# Altium schematic symbol library SCH_LIB.SchLib: 112 symbols
Pins are listed as number, name and electrical type; pins without a type are passive.

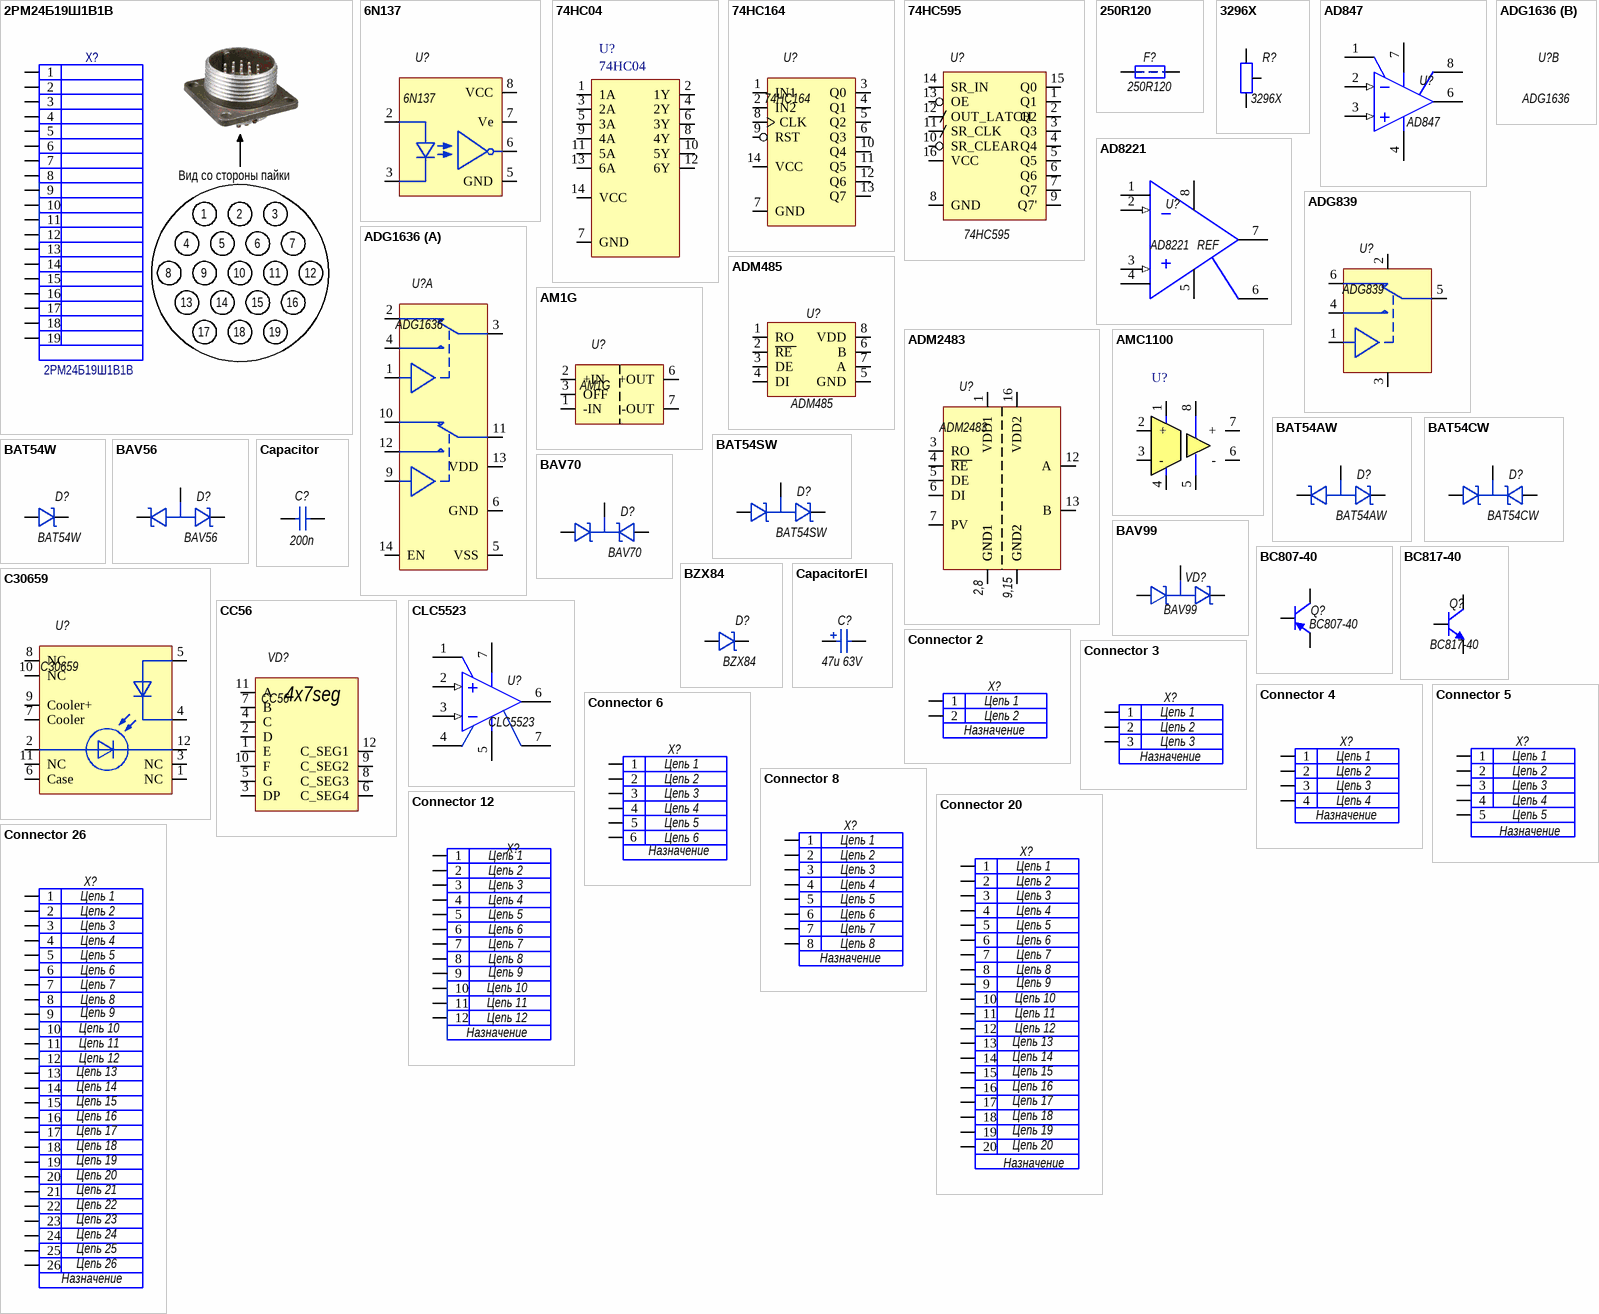
[diagram p0: symbols 2РМ24Б19Ш1В1В to Connector 26]

## 2РМ24Б19Ш1В1В
designator X?
Разъем; ValueSCH: 2РМ24Б19Ш1В1В; ValueBOM: 2РМ24Б19Ш1В1В; HelpURL: Z:\_PROJECTS\__MY_AD_LIB\Datasheets\2РМ24Б19Ш1В1В
pins: 1, 2, 3, 4, 5, 6, 7, 8, 9, 10, 11, 12, 13, 14, 15, 16, 17, 18, 19
text: Вид со стороны пайки

## 6N137
designator U?
Оптопара; ValueBOM: 6N137; ValueSCH: 6N137; MarkPCB: 6N137; HelpURL: C:\Datasheets\6N137.pdf
footprint SO8-150
pins: 2, 3, 5 GND, 6, 7 Ve, 8 VCC
1 alternate drawing of the same symbol

## 74HC04
designator U?
footprint SO14-150
pins: 1 1A, 2 1Y, 3 2A, 4 2Y, 5 3A, 6 3Y, 7 GND, 8 4Y, 9 4A, 10 5Y, 11 5A, 12 6Y, 13 6A, 14 VCC

## 74HC164
designator U?
Регистр сдвиговый последовательный вход-паралельный выход; ValueBOM: 74HC164; ValueSCH: 74HC164; MarkPCB: 74HC164; HelpURL: C:\Datasheets\74HC164.pdf
footprint SO14-150
pins: 1 IN1, 2 IN2, 3 Q0, 4 Q1, 5 Q2, 6 Q3, 7 GND, 8 CLK, 9 RST, 10 Q4, 11 Q5, 12 Q6, 13 Q7, 14 VCC
1 alternate drawing of the same symbol

## 74HC595
designator U?
Регистр сдвиговый последовательный вход-паралельный выход c защелкой; ValueBOM: 74HC595; ValueSCH: 74HC595; MarkPCB: 74HC595
footprint SO16-150
pins: 1 Q1, 2 Q2, 3 Q3, 4 Q4, 5 Q5, 6 Q6, 7 Q7, 8 GND, 9 Q7', 10 SR_CLEAR, 11 SR_CLK, 12 OUT_LATCH, 13 OE, 14 SR_IN, 15 Q0, 16 VCC
1 alternate drawing of the same symbol

## 250R120
designator F?
Resettable PTCs; ValueBOM: 250R120; ValueSCH: 250R120
footprint FUSR_BOURNS_MF-R_STYLE1-D7.4MM (PTC Resettable Fuse, MF-R Series, Case style 1 Diametre 7.4mm)
pins: 1, 2
1 alternate drawing of the same symbol

## 3296X
designator R?
Резистор подстроечный; ValueBOM: 3296X; ValueSCH: 3296X; HelpURL: C:\Datasheets\.pdf
footprint 3296X (Потенциометр)
pins: 1, 2, 3
1 alternate drawing of the same symbol

## AD847
designator U?
Операционный усилитель; ValueBOM: AD847; ValueSCH: AD847; MarkPCB: AD847; HelpURL: C:\Datasheets\AD847.pdf
footprint SO8-150
pins: 1 RG (power), 2 IN- (in), 3 IN+ (in), 4 V- (power), 6 OUT (oc), 7 V+ (power), 8 RG (power)
1 alternate drawing of the same symbol

## AD8221
designator U?
Дифференциальный усилитель; ValueBOM: AD8221; ValueSCH: AD8221; MarkPCB: AD8221
footprint SO8-150
pins: 1 RG (power), 2 IN+ (in), 3 IN- (in), 4 RG (power), 5 RG (power), 6 RG (power), 7 RG (power), 8 RG (power)
1 alternate drawing of the same symbol
text: REF

## ADG839
designator U?
Аналоговый ключ; ValueBOM: ADG839; ValueSCH: ADG839; MarkPCB: ADG839; HelpURL: C:\Datasheets\6N137.pdf
footprint SC70-6 (SC70, 6-Leads, Body 2.03x2.10mm, Pitch 0.65mm, IPC Medium Density)
pins: 1 IN, 2 VDD, 3 GND, 4 S1, 5 D, 6 S2
1 alternate drawing of the same symbol

## ADG1636
designator U?
Аналоговый ключ; ValueBOM: ADG1636; ValueSCH: ADG1636; MarkPCB: ADG1636
part A pins: 1 IN, 2 S2, 3 D, 4 S1, 5 VSS, 6 GND, 9 IN, 10 S2, 11 D, 12 S1, 13 VDD, 14 EN
1 alternate drawing of the same symbol

## ADM485
designator U?
Драйвер RS485; ValueBOM: ADM485; ValueSCH: ADM485; MarkPCB: ADM485; HelpURL: C:\Datasheets\ADM485.pdf
footprint SO8-150
pins: 1 RO, 2 ~{RE }, 3 DE, 4 DI, 5 GND, 6 B, 7 A, 8 VDD
1 alternate drawing of the same symbol

## ADM2483
designator U?
Драйвер RS485 изолированный; ValueBOM: ADM2483BRWZ; ValueSCH: ADM2483; MarkPCB: ADM2483; HelpURL: C:\Datasheets\ADM2483.pdf
footprint SO16-300
pins: 1 VDD1, 2 GND1, 3 RO, 4 ~{RE }, 5 DE, 6 DI, 7 PV, 8 GND1, 9 GND2, 12 A, 13 B, 15 GND2, 16 VDD2
1 alternate drawing of the same symbol
text: 2,8; 9,15

## AM1G
designator U?
DC/DC преобразователь; ValueBOM: AM1G; ValueSCH: AM1G; MarkPCB: AM1G; HelpURL: C:\Datasheets\AM1G.pdf
footprint AM1G (SIP-8 Package DC-DC Converter,Body 21.85x11.1mm, IZ Serie)
pins: 1 -IN, 2 +IN, 3 OFF, 6 +OUT, 7 -OUT
1 alternate drawing of the same symbol

## AMC1100
designator U?
Усилитель развязанный
footprint SO8-150
pins: 1, 2 +, 3 -, 4, 5, 6 -, 7 +, 8

## BAT54AW
designator D?
Диодная сборка 2хШоттки; MarkPCB: 42; ValueBOM: BAT54AW; ValueSCH: BAT54AW; HelpURL: C:\Datasheets\BAT54.pdf
footprint SOT323 (SOT-323/SC-70; 3 Leads; Body 2.2 x 2.2 mm, inc. leads (LxW max))
pins: 1, 2, 3
1 alternate drawing of the same symbol

## BAT54CW
designator D?
Диодная сборка 2хШоттки; MarkPCB: 43; ValueBOM: BAT54CW; ValueSCH: BAT54CW; HelpURL: C:\Datasheets\BAT54.pdf
footprint SOT323 (SOT-323/SC-70; 3 Leads; Body 2.2 x 2.2 mm, inc. leads (LxW max))
pins: 1, 2, 3
1 alternate drawing of the same symbol

## BAT54SW
designator D?
Диодная сборка 2хШоттки; MarkPCB: 44; ValueBOM: BAT54SW; ValueSCH: BAT54SW; HelpURL: C:\Datasheets\BAT54.pdf
footprint SOT323 (SOT-323/SC-70; 3 Leads; Body 2.2 x 2.2 mm, inc. leads (LxW max))
pins: 1, 2, 3
1 alternate drawing of the same symbol

## BAT54W
designator D?
Диод Шоттки; MarkPCB: L4; ValueBOM: BAT54W; ValueSCH: BAT54W; HelpURL: C:\Datasheets\BAT54.pdf
footprint SOT323 (SOT-323/SC-70; 3 Leads; Body 2.2 x 2.2 mm, inc. leads (LxW max))
pins: 1, 3
1 alternate drawing of the same symbol

## BAV56
designator D?
Диодная сборка 2хДиода; MarkPCB: A1*; ValueBOM: BAV56; ValueSCH: BAV56; HelpURL: C:\Datasheets\BAV56.pdf
footprint SOT323 (SOT-323/SC-70; 3 Leads; Body 2.2 x 2.2 mm, inc. leads (LxW max))
footprint Model Name (Model Description)
footprint Model Name (Model Description)
footprint SOT23 (SOT-23; 3 Leads; Body 3.0 x 2.6 mm Pitch 0.95mm)
pins: 1, 2, 3
1 alternate drawing of the same symbol

## BAV70
designator D?
Диодная сборка 2хДиода; MarkPCB: A4*; ValueBOM: BAV70; ValueSCH: BAV70; HelpURL: C:\Datasheets\BAV70.pdf
footprint SOT323 (SOT-323/SC-70; 3 Leads; Body 2.2 x 2.2 mm, inc. leads (LxW max))
footprint SOT23 (SOT-23; 3 Leads; Body 3.0 x 2.6 mm Pitch 0.95mm)
pins: 1, 2, 3
1 alternate drawing of the same symbol

## BAV99
designator VD?
Диодная сборка 2хДиода; ValueBOM: BAV99; ValueSCH: BAV99
footprint SOT23 (SOT-23; 3 Leads; Body 3.0 x 2.6 mm Pitch 0.95mm)
pins: 1, 2, 3
1 alternate drawing of the same symbol

## BC807-40
designator Q?
Транзистор PNP; MarkPCB: 5C*; ValueBOM: BC807-40; ValueSCH: BC807-40; HelpURL: C:\Datasheets\BC807.pdf
footprint SOT23 (SOT-23; 3 Leads; Body 3.0 x 2.6 mm Pitch 0.95mm)
pins: 1 B, 2 E, 3 C
1 alternate drawing of the same symbol

## BC817-40
designator Q?
Транзистор NPN; MarkPCB: 6C*; ValueBOM: BC817-40; ValueSCH: BC817-40; HelpURL: C:\Datasheets\BC817.pdf
footprint SOT23 (SOT-23; 3 Leads; Body 3.0 x 2.6 mm Pitch 0.95mm)
pins: 1 B, 2 E, 3 C
1 alternate drawing of the same symbol

## BZX84
designator D?
Стабилитрон; ValueBOM: BZX84; ValueSCH: BZX84; HelpURL: C:\Datasheets\BAT54.pdf
footprint SOT23 (SOT-23; 3 Leads; Body 3.0 x 2.6 mm Pitch 0.95mm)
pins: 1, 3
1 alternate drawing of the same symbol

## C30659
designator U?
Модуль с ЛФД; ValueBOM: C30659; ValueSCH: C30659; MarkPCB: C30659; HelpURL: C:\Datasheets\C30659.pdf
footprint C30659
pins: 1 NC, 2, 3 NC, 4, 5, 6 Case, 7 Cooler, 8 NC, 9 Cooler+, 10 NC, 11 NC, 12
1 alternate drawing of the same symbol

## Capacitor
designator C?, comment 200n
Конденсатор; ValueBOM: 0805 200n 25V; ValueSCH: 200n
footprint CAP_0402 (Chip Resistor, EIA 0402, Metric 1005, Body 1.0x0.5mm, IPC Medium Density)
footprint CAP_0603 (Chip Resistor, EIA 0603, Metric 1608, Body 1.6x0.8mm, IPC Medium Density)
footprint CAP_0805 (Chip Resistor, EIA 0805, Metric 2012, Body 2.0x1.2mm, IPC Medium Density)
footprint CAP_1206 (Chip Resistor, EIA 1206, Metric 3016, Body 3.05x1.55mm, IPC Medium Density)
footprint CAP_1210 (Chip Resistor, EIA 1210, Metric 3225, Body 3.2x2.5mm, IPC Medium Density)
footprint CAP_1812 (Chip Resistor, EIA 1812, Metric 4532, 2-Leads, Body 4.5x3.2mm, IPC Medium Density)
footprint CAP_2220 (Chip Capacitor, 2-Leads, Body 5.7x5.0mm, IPC Medium Density)
pins: 1, 2
1 alternate drawing of the same symbol

## CapacitorEl
designator C?, comment 47u 63V
Конденсатор электролитический; ValueBOM: 47u; ValueSCH: 47u 63V
pins: 1, 2
1 alternate drawing of the same symbol

## CC56
designator VD?
Индикатор семисигментный; ValueBOM: CC56; ValueSCH: CC56; MarkPCB: CC56; HelpURL: C:\Datasheets\CC56.pdf
footprint CA56
pins: 1 E, 2 D, 3 DP, 4 C, 5 G, 6 C_SEG4, 7 B, 8 C_SEG3, 9 C_SEG2, 10 F, 11 A, 12 C_SEG1
1 alternate drawing of the same symbol
text: 4x7seg

## CLC5523
designator U?
Операционный усилитель c регулируемым Кус; ValueBOM: CLC5523; ValueSCH: CLC5523; MarkPCB: CLC5523; HelpURL: C:\Datasheets\CLC5523.pdf
footprint SO8-150
pins: 1 RG (power), 2 IN+ (in), 3 IN- (in), 4 V- (power), 5 V- (power), 6 OUT (oc), 7 V+ (power), 7 V- (power)
1 alternate drawing of the same symbol

## Connector 2
designator X?, comment Net1: Цепь 1  Net2: Цепь 2  Name: Назначение  (hidden comment: Model)
ValueSCH: Model
pins: 1, 2

## Connector 3
designator X?, comment Net1: Цепь 1  Net2: Цепь 2  Name: Назначение  Net3: Цепь 3  (hidden comment: Model)
ValueSCH: Model
pins: 1, 2, 3

## Connector 4
designator X?, comment Net4: Цепь 4  Net1: Цепь 1  Net2: Цепь 2  Name: Назначение  Net3: Цепь 3  (hidden comment: Model)
ValueSCH: Model
pins: 1, 2, 3, 4

## Connector 5
designator X?, comment Net4: Цепь 4  Net1: Цепь 1  Net2: Цепь 2  Name: Назначение  Net3: Цепь 3  Net5: Цепь 5  (hidden comment: Model)
ValueSCH: Model
pins: 1, 2, 3, 4, 5

## Connector 6
designator X?, comment Net4: Цепь 4  Net1: Цепь 1  Net2: Цепь 2  Name: Назначение  Net3: Цепь 3  Net5: Цепь 5  Net6: Цепь 6  (hidden comment: Model)
ValueSCH: Model
pins: 1, 2, 3, 4, 5, 6

## Connector 8
designator X?, comment Net4: Цепь 4  Net1: Цепь 1  Net2: Цепь 2  Name: Назначение  Net3: Цепь 3  Net5: Цепь 5  Net6: Цепь 6  Net7: Цепь 7  Net8: Цепь 8  (hidden comment: Model)
ValueSCH: Model
pins: 1, 2, 3, 4, 5, 6, 7, 8

## Connector 12
designator X?, comment NET?: Назначение  Net4: Цепь 4  Net1: Цепь 1  Net2: Цепь 2  Net9: Цепь 9  Net3: Цепь 3  Net5: Цепь 5  Net6: Цепь 6  Net7: Цепь 7  Net8: Цепь 8  Net10: Цепь 10  Net11: Цепь 11  Net12: Цепь 12  (hidden comment: Model)
ValueSCH: Model
pins: 1, 2, 3, 4, 5, 6, 7, 8, 9, 10, 11, 12

## Connector 20
designator X?, comment NET?: Назначение  Net4: Цепь 4  Net1: Цепь 1  Net2: Цепь 2  Net9: Цепь 9  Net3: Цепь 3  Net5: Цепь 5  Net6: Цепь 6  Net7: Цепь 7  Net8: Цепь 8  Net10: Цепь 10  Net11: Цепь 11  Net12: Цепь 12  Net13: Цепь 13  Net15: Цепь 15  Net16: Цепь 16  Net20: Цепь 20  Net19: Цепь 19  Net18: Цепь 18  Net17: Цепь 17  Net14: Цепь 14  (hidden comment: Model)
ValueSCH: Model
footprint IDC-20MR
pins: 1, 2, 3, 4, 5, 6, 7, 8, 9, 10, 11, 12, 13, 14, 15, 16, 17, 18, 19, 20

## Connector 26
designator X?, comment NET?: Назначение  Net4: Цепь 4  Net1: Цепь 1  Net2: Цепь 2  Net9: Цепь 9  Net3: Цепь 3  Net5: Цепь 5  Net6: Цепь 6  Net7: Цепь 7  Net8: Цепь 8  Net10: Цепь 10  Net11: Цепь 11  Net12: Цепь 12  Net13: Цепь 13  Net15: Цепь 15  Net16: Цепь 16  Net26: Цепь 26  Net25: Цепь 25  Net24: Цепь 24  Net23: Цепь 23  Net22: Цепь 22  Net21: Цепь 21  Net20: Цепь 20  Net19: Цепь 19  Net18: Цепь 18  Net17: Цепь 17  Net14: Цепь 14  (hidden comment: Model)
ValueSCH: Model
footprint BH-26
pins: 1, 2, 3, 4, 5, 6, 7, 8, 9, 10, 11, 12, 13, 14, 15, 16, 17, 18, 19, 20, 21, 22, 23, 24, 25, 26

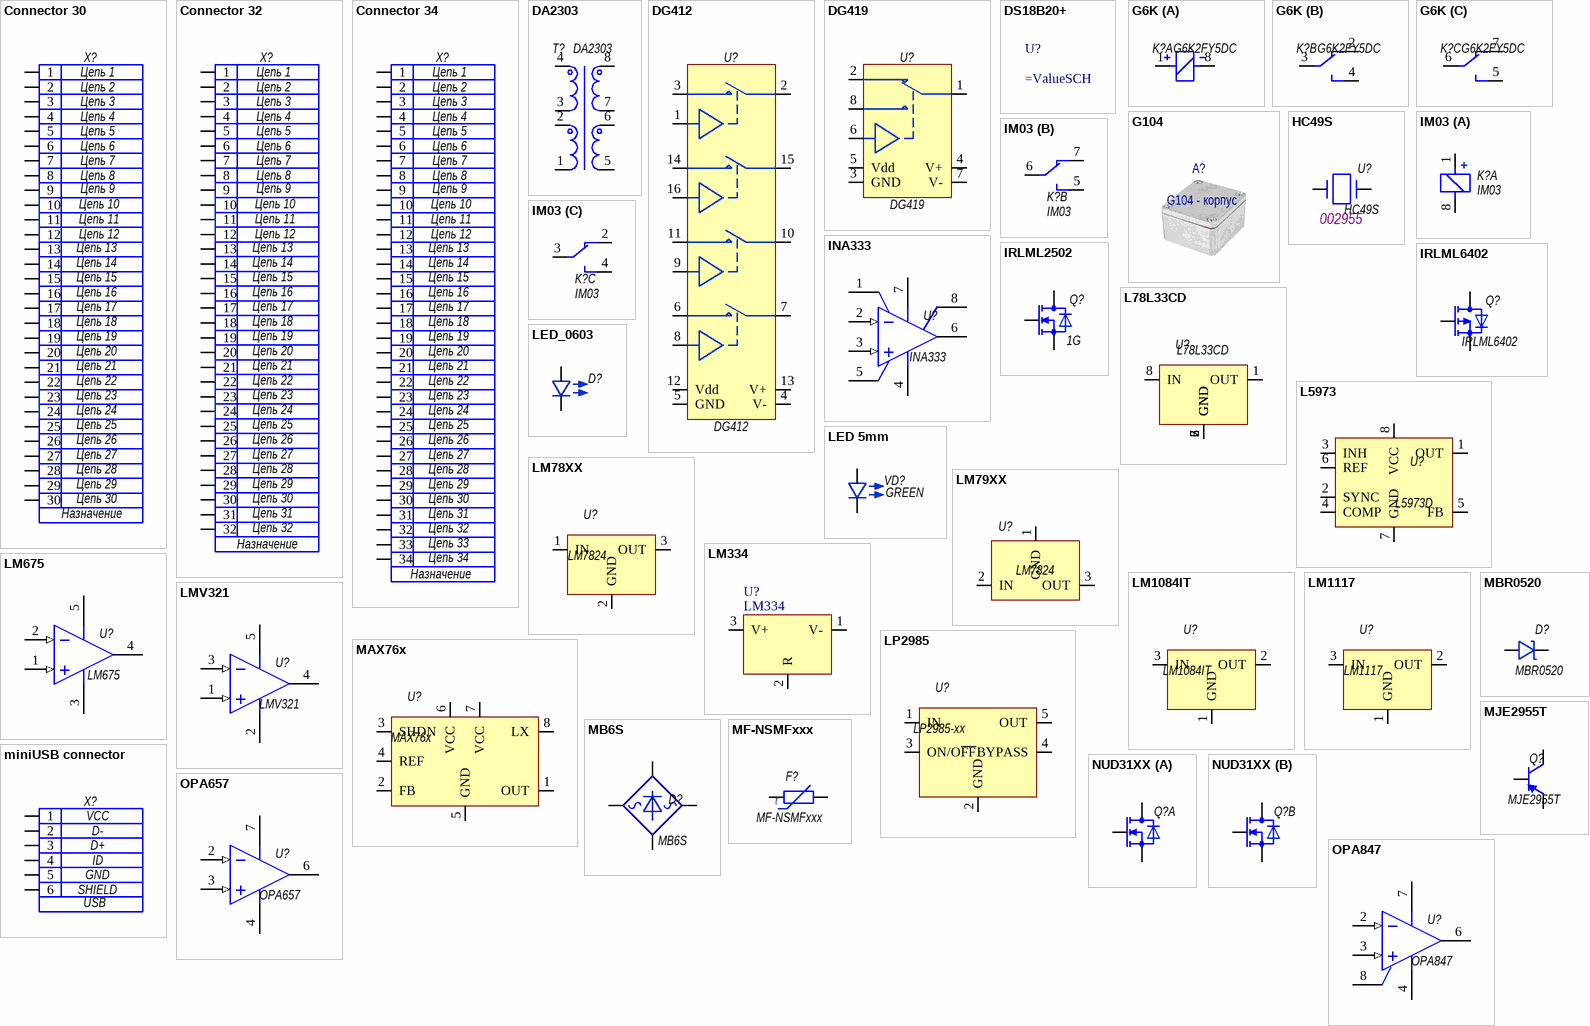
[diagram p1: symbols Connector 30 to OPA847]

## Connector 30
designator X?, comment NET?: Назначение  Net4: Цепь 4  Net1: Цепь 1  Net2: Цепь 2  Net9: Цепь 9  Net3: Цепь 3  Net5: Цепь 5  Net6: Цепь 6  Net7: Цепь 7  Net8: Цепь 8  Net10: Цепь 10  Net11: Цепь 11  Net12: Цепь 12  Net13: Цепь 13  Net15: Цепь 15  Net16: Цепь 16  Net30: Цепь 30  Net29: Цепь 29  Net28: Цепь 28  Net27: Цепь 27  Net26: Цепь 26  Net25: Цепь 25  Net24: Цепь 24  Net23: Цепь 23  Net22: Цепь 22  Net21: Цепь 21  Net20: Цепь 20  Net19: Цепь 19  Net18: Цепь 18  Net17: Цепь 17  Net14: Цепь 14  (hidden comment: Model)
ValueSCH: Model
pins: 1, 2, 3, 4, 5, 6, 7, 8, 9, 10, 11, 12, 13, 14, 15, 16, 17, 18, 19, 20, 21, 22, 23, 24, 25, 26, 27, 28, 29, 30

## Connector 32
designator X?, comment NET?: Назначение  Net4: Цепь 4  Net1: Цепь 1  Net2: Цепь 2  Net9: Цепь 9  Net3: Цепь 3  Net5: Цепь 5  Net6: Цепь 6  Net7: Цепь 7  Net8: Цепь 8  Net10: Цепь 10  Net11: Цепь 11  Net12: Цепь 12  Net13: Цепь 13  Net15: Цепь 15  Net16: Цепь 16  Net32: Цепь 32  Net31: Цепь 31  Net30: Цепь 30  Net29: Цепь 29  Net28: Цепь 28  Net27: Цепь 27  Net26: Цепь 26  Net25: Цепь 25  Net24: Цепь 24  Net23: Цепь 23  Net22: Цепь 22  Net21: Цепь 21  Net20: Цепь 20  Net19: Цепь 19  Net18: Цепь 18  Net17: Цепь 17  Net14: Цепь 14  (hidden comment: Model)
ValueSCH: Model
pins: 1, 2, 3, 4, 5, 6, 7, 8, 9, 10, 11, 12, 13, 14, 15, 16, 17, 18, 19, 20, 21, 22, 23, 24, 25, 26, 27, 28, 29, 30, 31, 32

## Connector 34
designator X?, comment NET?: Назначение  Net4: Цепь 4  Net1: Цепь 1  Net2: Цепь 2  Net9: Цепь 9  Net3: Цепь 3  Net5: Цепь 5  Net6: Цепь 6  Net7: Цепь 7  Net8: Цепь 8  Net10: Цепь 10  Net11: Цепь 11  Net12: Цепь 12  Net13: Цепь 13  Net15: Цепь 15  Net16: Цепь 16  Net34: Цепь 34  Net33: Цепь 33  Net32: Цепь 32  Net31: Цепь 31  Net30: Цепь 30  Net29: Цепь 29  Net28: Цепь 28  Net27: Цепь 27  Net26: Цепь 26  Net25: Цепь 25  Net24: Цепь 24  Net23: Цепь 23  Net22: Цепь 22  Net21: Цепь 21  Net20: Цепь 20  Net19: Цепь 19  Net18: Цепь 18  Net17: Цепь 17  Net14: Цепь 14  (hidden comment: Model)
ValueSCH: Model
pins: 1, 2, 3, 4, 5, 6, 7, 8, 9, 10, 11, 12, 13, 14, 15, 16, 17, 18, 19, 20, 21, 22, 23, 24, 25, 26, 27, 28, 29, 30, 31, 32, 33, 34

## DA2303
designator T?
Трансформатор малогабаритный; ValueBOM: DA2303; HelpURL: C:\Datasheets\DA2303.pdf; ValueSCH: DA2303; MarkPCB: DA2303
footprint DA2303
pins: 1, 2 8, 3 7, 4 8, 5 8, 6 7, 7 8, 8 1

## DG412
designator U?
Аналоговый ключ; ValueBOM: DG412; ValueSCH: DG412; MarkPCB: DG412
footprint SO16-150
pins: 1 IN, 2 D, 3 S1, 4 V-, 5 GND, 6 S1, 7 D, 8 IN, 9 IN, 10 D, 11 S1, 12 Vdd, 13 V+, 14 S1, 15 D, 16 IN
1 alternate drawing of the same symbol

## DG419
designator U?
Аналоговый ключ; ValueBOM: DG419; ValueSCH: DG419; MarkPCB: DG419; HelpURL: Z:\_PROJECTS\__MY_AD_LIB\Datasheets\DG419.pdf
footprint SO8-150
pins: 1 D, 2 S2, 3 GND, 4 V+, 5 Vdd, 6 IN, 7 V-, 8 S1
1 alternate drawing of the same symbol

## DS18B20+
designator U?
Датчик температуры цифровой
footprint TO-92AA-P152 (TO-92 (TO-226),  Pitch 1.524mm, Flat Index, 3 In-Line, Axial Leads, Body Dia. 5.3mm, Leads Dia. 0.5mm (max))

## G6K
designator K?, comment G6K2FY5DC
Реле DPDT; MarkPCB: G6K; ValueBOM: G6K2FY5DC; HelpURL: C:\Datasheets\G6K.pdf; ValueSCH: G6K2FY5DC
part A pins: 1, 8
part B pins: 2, 3, 4
part C pins: 5, 6, 7

## G104
designator A?, comment G104 - корпус  (mechanical)
Корпус; ValueSCH: G104 - корпус; ValueBOM: G104; HelpURL: Z:\_PROJECTS\__MY_AD_LIB\Datasheets\G104
footprint G104

## HC49S
designator U?  Article: 002955
Кварцевый резонатор; ValueBOM: HC49S; ValueSCH: HC49S; MarkPCB: HC49S
footprint HC49S
pins: 1, 2
1 alternate drawing of the same symbol

## IM03
designator K?
Реле; ValueBOM: IM03; HelpURL: C:\Datasheets\IM03.pdf; ValueSCH: IM03; MarkPCB: IM03
footprint IM03 THD (Relay, 8 Leads, Row Spacing 5.08 mm; Body 14.5mm x 7.2mm, AXICOM P2 Serie)
footprint IM03 SMD (Relay, 8 Leads, Row Spacing 5.08 mm; Body 14.5mm x 7.2mm, AXICOM P2 Serie)
part A pins: 1, 8
part B pins: 5, 6, 7
part C pins: 2, 3, 4

## INA333
designator U?
Инструментальный усилитель; ValueBOM: INA333; ValueSCH: INA333; MarkPCB: INA333; HelpURL: C:\Datasheets\INA333.pdf
footprint MSOP-8
pins: 1 RG (power), 2 IN- (in), 3 IN+ (in), 4 V- (power), 5 REF (power), 6 OUT (oc), 7 V+ (power), 8 RG (power)
1 alternate drawing of the same symbol

## IRLML2502
designator Q?, comment 1G
Транзистор NFET; ValueBOM: IRLML2502; ValueSCH: 1G; MarkPCB: IRLML2502; HelpURL: C:\Datasheets\IRLML2502.pdf
footprint SOT23 (SOT-23; 3 Leads; Body 3.0 x 2.6 mm Pitch 0.95mm)
pins: 1 GATE, 2 SOURCE, 3 DRAIN
1 alternate drawing of the same symbol

## IRLML6402
designator Q?
Транзистор PFET; ValueBOM: IRLML6402; ValueSCH: IRLML6402; MarkPCB: IRLML6402; HelpURL: C:\Datasheets\IRLML6402.pdf
footprint SOT23 (SOT-23; 3 Leads; Body 3.0 x 2.6 mm Pitch 0.95mm)
pins: 1 GATE, 2 SOURCE, 3 DRAIN
1 alternate drawing of the same symbol

## L78L33CD
designator U?
Стабилизатор; ValueBOM: L78L33CD; ValueSCH: L78L33CD; MarkPCB: L78L33CD; HelpURL: C:\Datasheets\.pdf
footprint SO8-150
pins: 1 OUT, 2 GND, 3 GND, 6 GND, 7 GND, 8 IN
1 alternate drawing of the same symbol

## L5973
designator U?, comment L5973D
Преобразователь понижающий; ValueBOM: L5973D; ValueSCH: L5973D; MarkPCB: L5973D; HelpURL: C:\Datasheets\.pdf
footprint SO8-150(EXPOSED PAD)
pins: 1 OUT, 2 SYNC, 3 INH, 4 COMP, 5 FB, 6 REF, 7 GND, 8 VCC
1 alternate drawing of the same symbol

## LED 5mm
designator VD?, comment GREEN
Светодиод
pins: 1 0, 2 0

## LED_0603
designator D?
Светодиод
footprint LED_0603 (Chip Resistor, EIA 0603, Metric 1608, Body 1.6x0.8mm, IPC Medium Density)
pins: 1 0, 2 0

## LM78XX
designator U?, comment LM7824
Стабилизатор; ValueBOM: LM7824; ValueSCH: LM7824; MarkPCB: LM7824; HelpURL: C:\Datasheets\.pdf
footprint TO-220-v (TO-220 3-Terminal - Vertical Mount)
pins: 1 IN, 2 GND, 3 OUT
1 alternate drawing of the same symbol

## LM79XX
designator U?, comment LM7824
Стабилизатор; ValueBOM: LM7824; ValueSCH: LM7824; MarkPCB: LM7824; HelpURL: C:\Datasheets\.pdf
pins: 1 GND, 2 IN, 3 OUT
1 alternate drawing of the same symbol

## LM334
designator U?
Источник тока
footprint TO-92AA-P254 (Footprint not found)
pins: 1 V-, 2 R, 3 V+

## LM675
designator U?
Операционный усилитель Мощный; ValueBOM: LM675; ValueSCH: LM675; MarkPCB: LM675; HelpURL: C:\Datasheets\.pdf
footprint TO-220-5-v (TO-220 5-Terminal - Vertical Mount)
pins: 1 IN+ (in), 2 IN- (in), 3 V- (power), 4 OUT (oc), 5 V+ (power)
1 alternate drawing of the same symbol

## LM1084IT
designator U?
Стабилизатор; ValueBOM: LM1084IT; ValueSCH: LM1084IT; MarkPCB: LM1084IT; HelpURL: C:\Datasheets\.pdf
pins: 1 GND, 2 OUT, 3 IN
1 alternate drawing of the same symbol

## LM1117
designator U?
Стабилизатор LDO; MarkPCB: xx; ValueBOM: LM1117; ValueSCH: LM1117; HelpURL: C:\Datasheets\.pdf
footprint SOT223 (SOT-223/SC-73; 4 Leads; Body 6.7 x 7.3 mm, inc. leads (LxW max))
pins: 1 GND, 2 OUT, 3 IN
1 alternate drawing of the same symbol

## LMV321
designator U?
Операционный усилитель; ValueBOM: LMV321; ValueSCH: LMV321; MarkPCB: LMV321; HelpURL: C:\Datasheets\.pdf
footprint SOT236 (SOT23, 6-Leads, Body 2.9x1.3mm, Pitch 0.95mm, Lead Span 2.5mm)
pins: 1 IN+ (in), 2 V- (power), 3 IN- (in), 4 OUT (oc), 5 V+ (power)
1 alternate drawing of the same symbol

## LP2985
designator U?, comment LP2985-xx
Стабилизатор LDO; MarkPCB: xx; ValueBOM: LP2985-xx; ValueSCH: LP2985-xx; HelpURL: C:\Datasheets\LP2985.pdf
footprint SOT235 (SOT23, 5-Leads, Body 2.9x1.3mm, Pitch 0.95mm, Lead Span 2.5mm)
pins: 1 IN, 2 GND, 3 ON/O~{FF}, 4 BYPASS, 5 OUT
1 alternate drawing of the same symbol

## MAX76x
designator U?
Преобразователь инвертирующий; ValueBOM: MAX76x; ValueSCH: MAX76x; MarkPCB: MAX76x; HelpURL: C:\Datasheets\MAX76X.pdf
footprint SO8-150
pins: 1 OUT, 2 FB, 3 SHDN, 4 REF, 5 GND, 6 VCC, 7 VCC, 8 LX
1 alternate drawing of the same symbol

## MB6S
designator D?
Диодный мост; ValueBOM: MB6S; ValueSCH: MB6S; MarkPCB: MB6S; HelpURL: C:\Datasheets\MB6S.pdf
footprint SOIC254P680X220-4N (SOIC,2.54mm,pitch;4 pin,4.40mm W X 4.30mm L X 2.20mm H body, IPC Medium Density)
pins: 1, 2, 3, 4
1 alternate drawing of the same symbol

## MBR0520
designator D?
Диод Шоттки; MarkPCB: AYWLC; ValueBOM: MBR0520; ValueSCH: MBR0520; HelpURL: C:\Datasheets\MBR0520.pdf
footprint SOD-123 (SOD-123; 2 Leads; Body 2.7 x 1.6 mm, (LxW))
pins: 1, 2
1 alternate drawing of the same symbol

## MF-NSMFxxx
designator F?
Предохранитель самовосстанавливаемый; ValueBOM: MF-NSMFxxx; ValueSCH: MF-NSMFxxx; HelpURL: C:\Datasheets\MF-NSMF.pdf
footprint RES_1206 (Chip Resistor, EIA 1206, Metric 3016, Body 3.05x1.55mm, IPC Medium Density)
pins: 1, 2
1 alternate drawing of the same symbol
text: t

## miniUSB connector
designator X?, comment Net4: ID  Net1: VCC  Net2: D-  Name: USB  Net3: D+  Net5: GND  Net6: SHIELD  (hidden comment: Model)
коннектор USB; ValueSCH: Model
pins: 1, 2, 3, 4, 5, 6

## MJE2955T
designator Q?
Транзистор NPN; ValueBOM: MJE2955T; ValueSCH: MJE2955T; HelpURL: C:\Datasheets\.pdf
footprint TO-220 (TO-220 3-Terminal - Vertical Mount)
footprint TO-220-H (TO-220 3-Terminal + Tab - Horizontal Mount)
pins: 1 B, 2 C, 3 E
1 alternate drawing of the same symbol

## NUD31XX
designator Q?
Драйвер реле; ValueBOM: NUD31XX; MarkPCB: NUD31XX
footprint SC70-6 (SC70, 6-Leads, Body 2.03x2.10mm, Pitch 0.65mm, IPC Medium Density)
part A pins: 1 SOURCE, 2 GATE, 6 DRAIN
part B pins: 3 DRAIN, 4 SOURCE, 5 GATE
1 alternate drawing of the same symbol

## OPA657
designator U?
Операционный усилитель; ValueBOM: OPA657; ValueSCH: OPA657; MarkPCB: OPA657; HelpURL: C:\Datasheets\OPA657.pdf
footprint SO8-150
pins: 2 IN- (in), 3 IN+ (in), 4 V- (power), 6 OUT (oc), 7 V+ (power)
1 alternate drawing of the same symbol

## OPA847
designator U?
Операционный усилитель; ValueBOM: OPA847; ValueSCH: OPA847; MarkPCB: OPA847; HelpURL: C:\Datasheets\OPA847.pdf
footprint SO8-150
pins: 2 IN- (in), 3 IN+ (in), 4 V- (power), 6 OUT (oc), 7 V+ (power), 8 RG (power)
1 alternate drawing of the same symbol

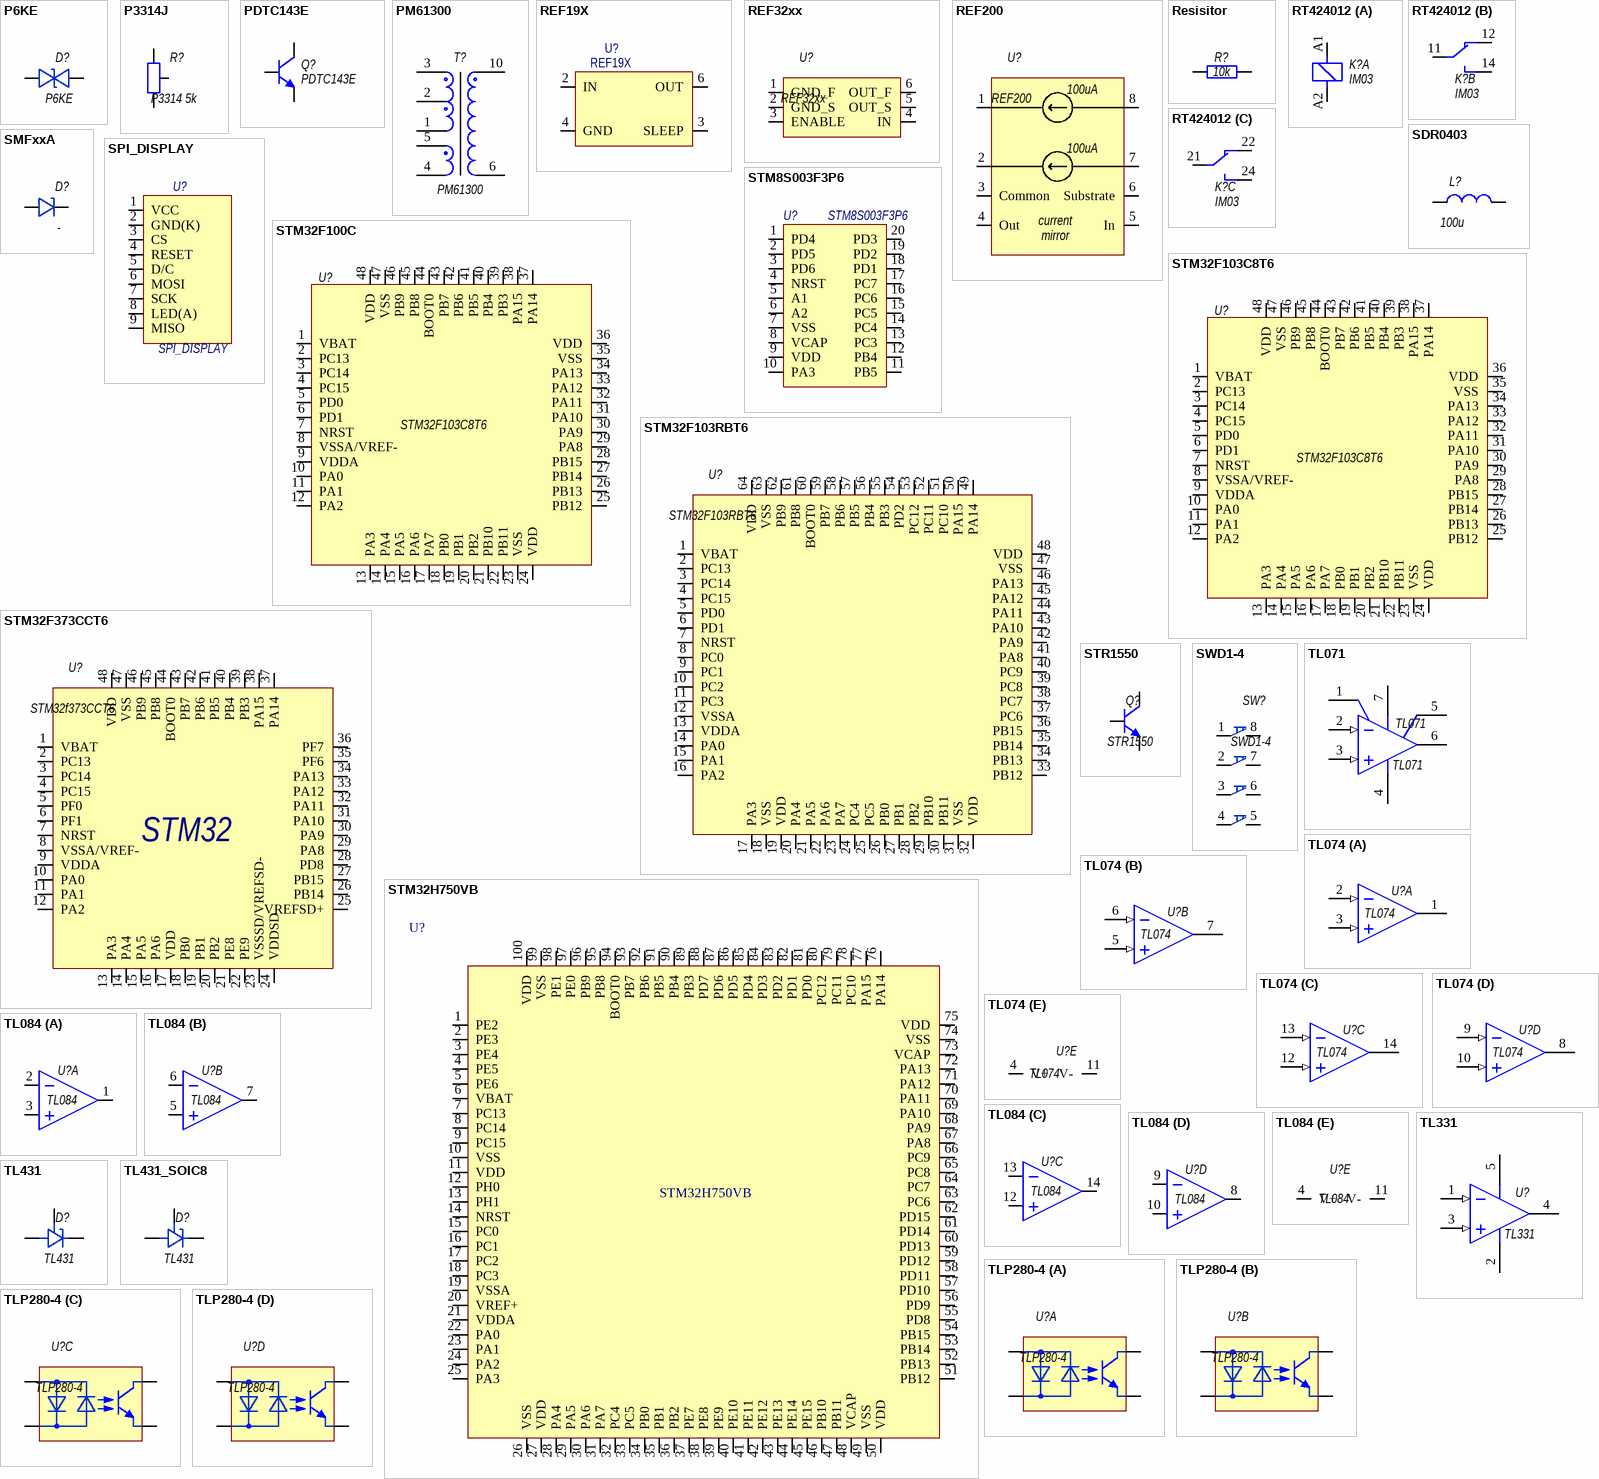
[diagram p2: symbols P6KE to TLP280-4]

## P6KE
designator D?
Диод защитный; ValueBOM: P6KE; ValueSCH: P6KE; MarkPCB: P6KE
footprint DO-15V
pins: 1, 2
1 alternate drawing of the same symbol

## P3314J
designator R?, comment P3314 5k
Резистор подстроечный; ValueBOM: P3314 5k; ValueSCH: P3314 5k; HelpURL: C:\Datasheets\.pdf
footprint 3314 (Bourns 3314G-1 Single Turn 4mm Square Trimpot® Trimming Potentiometer (Top Adjust))
pins: 1, 2, 3
1 alternate drawing of the same symbol

## PDTC143E
designator Q?
Транзистор NPN с резисторами; ValueBOM: PDTC143E; ValueSCH: PDTC143E; MarkPCB: PDTC143E; HelpURL: C:\Datasheets\.pdf
footprint SOT23 (SOT-23; 3 Leads; Body 3.0 x 2.6 mm Pitch 0.95mm)
pins: 1 B, 2 E, 3 C
1 alternate drawing of the same symbol

## PM61300
designator T?
Трансформатор; ValueBOM: PM61300; ValueSCH: PM61300; MarkPCB: PM61300; HelpURL: C:\Datasheets\.pdf
footprint PM61300 (Transformer)
pins: 1, 2 220, 3 220, 4 220, 5 220, 6 220, 10 220
1 alternate drawing of the same symbol

## REF19X
designator U?
Источник опорного напряжения
footprint SO8-150
pins: 2 IN, 3 SLEEP, 4 GND, 6 OUT

## REF32xx
designator U?
Источник опорного напряжения; ValueBOM: REF32xx; ValueSCH: REF32xx; HelpURL: C:\Datasheets\REF32xx.pdf
footprint SOT236 (SOT23, 6-Leads, Body 2.9x1.3mm, Pitch 0.95mm, Lead Span 2.5mm)
pins: 1 GND_F, 2 GND_S, 3 ENABLE, 4 IN, 5 OUT_S, 6 OUT_F
1 alternate drawing of the same symbol

## REF200
designator U?
Источник опорного тока; ValueBOM: REF200; ValueSCH: REF200; MarkPCB: REF200; HelpURL: C:\Datasheets\REF200.pdf
footprint SO8-150
pins: 1 10, 2 10, 3 Common, 4 Out, 5 In, 6 Substrate, 7 11, 8 11
1 alternate drawing of the same symbol
text: 100uA; current; mirror

## Resisitor
designator R?, comment 10k
Резистор; ValueBOM: 0805 10k 0.125; MarkPCB: 103; ValueSCH: 10k
footprint RES_0402 (Chip Resistor, EIA 0402, Metric 1005, Body 1.0x0.5mm, IPC Medium Density)
footprint RES_0603 (Chip Resistor, EIA 0603, Metric 1608, Body 1.6x0.8mm, IPC Medium Density)
footprint RES_0805 (Chip Resistor, EIA 0805, Metric 2012, Body 2.0x1.2mm, IPC Medium Density)
footprint RES_1206 (Chip Resistor, EIA 1206, Metric 3016, Body 3.05x1.55mm, IPC Medium Density)
footprint RES_1210 (Chip Resistor, EIA 1210, Metric 3225, Body 3.2x2.5mm, IPC Medium Density)
footprint RES_1218 (Chip Resistor, EIA 1218, Metric 3146, 2-Leads, Body 4.6x3.1mm, IPC Medium Density)
footprint RES_1812 (Chip Resistor, EIA 1812, Metric 4532, 2-Leads, Body 4.5x3.2mm, IPC Medium Density)
footprint RES_2010 (Resistor, Chip; 5mm L X 2.5mm W X 0.65mm H, IPC Medium Density)
footprint RES_2512 (EIA 2512, Metric 6432, 2-Leads, Resistor, Chip; 6.35mm L X 3.20mm W X 0.69mm H, IPC Medium Density)
footprint SQP-10W
pins: 1, 2
1 alternate drawing of the same symbol

## RT424012
designator K?, comment IM03
Реле; ValueBOM: IM03; HelpURL: C:\Datasheets\IM03.pdf; ValueSCH: IM03; MarkPCB: IM03
footprint REL_TYCO_SCHRACK_RT31xxxx (8 Leads, Row Spacing 7.62 mm; Body 29mm x 12.7mm, TYCO RT Serie)
footprint RELAY 1
part A pins: A1, A2
part B pins: 11, 12, 14
part C pins: 21, 22, 24

## SDR0403
designator L?, comment 100u
Индуктивность; ValueBOM: SDR0403-101k; MarkPCB: 101; ValueSCH: 100u; HelpURL: C:\Datasheets\SRD0403.pdf
footprint SDR0403 (INDUCTANCE)
pins: 1 7, 2 8
1 alternate drawing of the same symbol

## SMFxxA
designator D?, comment -
Диод защитный; ValueBOM: -; ValueSCH: -; MarkPCB: -; HelpURL: C:\Datasheets\SMF.pdf
footprint SOD-123 (SOD-123; 2 Leads; Body 2.7 x 1.6 mm, (LxW))
pins: 1, 2
1 alternate drawing of the same symbol

## SPI_DISPLAY
designator U?
Дисплей 2.2 SPI
footprint DISPLAY 2.2 240x320
pins: 1 VCC, 2 GND(K), 3 CS, 4 RESET, 5 D/C, 6 MOSI, 7 SCK, 8 LED(A), 9 MISO

## STM8S003F3P6
designator U?
Микроконтроллер; ValueBOM: STM8S003F3P6; ValueSCH: STM8S003F3P6
footprint Model Name (Footprint not found)
footprint TSSOP20 (SOP, 20-Leads, Body 6.6x4.5mm (max), Pitch 0.65mm, IPC Medium Density)
pins: 1 PD4, 2 PD5, 3 PD6, 4 NRST, 5 A1, 6 A2, 7 VSS, 8 VCAP, 9 VDD, 10 PA3, 11 PB5, 12 PB4, 13 PC3, 14 PC4, 15 PC5, 16 PC6, 17 PC7, 18 PD1, 19 PD2, 20 PD3

## STM32F100C
designator U?, comment STM32F103C8T6
Микроконтроллер; ValueBOM: STM32F103C8T6; ValueSCH: STM32F103C8T6; MarkPCB: STM32F103C8T6; HelpURL: C:\Datasheets\.pdf
footprint LQFP48 (QFP, 0.50mm Pitch, Square, 12 pin X 12 Pin, 7.00mm X 7.00mm X 1.20mm Body, IPC Medium Density)
pins: 1 VBAT, 2 PC13, 3 PC14, 4 PC15, 5 PD0, 6 PD1, 7 NRST, 8 VSSA/VREF-, 9 VDDA, 10 PA0, 11 PA1, 12 PA2, 13 PA3, 14 PA4, 15 PA5, 16 PA6, 17 PA7, 18 PB0, 19 PB1, 20 PB2, 21 PB10, 22 PB11, 23 VSS, 24 VDD, 25 PB12, 26 PB13, 27 PB14, 28 PB15, 29 PA8, 30 PA9, 31 PA10, 32 PA11, 33 PA12, 34 PA13, 35 VSS, 36 VDD, 37 PA14, 38 PA15, 39 PB3, 40 PB4, 41 PB5, 42 PB6, 43 PB7, 44 BOOT0, 45 PB8, 46 PB9, 47 VSS, 48 VDD
1 alternate drawing of the same symbol

## STM32F103C8T6
designator U?
Микроконтроллер; ValueBOM: STM32F103C8T6; ValueSCH: STM32F103C8T6; MarkPCB: STM32F103C8T6; HelpURL: C:\Datasheets\.pdf
footprint LQFP48 (QFP, 0.50mm Pitch, Square, 12 pin X 12 Pin, 7.00mm X 7.00mm X 1.20mm Body, IPC Medium Density)
pins: 1 VBAT, 2 PC13, 3 PC14, 4 PC15, 5 PD0, 6 PD1, 7 NRST, 8 VSSA/VREF-, 9 VDDA, 10 PA0, 11 PA1, 12 PA2, 13 PA3, 14 PA4, 15 PA5, 16 PA6, 17 PA7, 18 PB0, 19 PB1, 20 PB2, 21 PB10, 22 PB11, 23 VSS, 24 VDD, 25 PB12, 26 PB13, 27 PB14, 28 PB15, 29 PA8, 30 PA9, 31 PA10, 32 PA11, 33 PA12, 34 PA13, 35 VSS, 36 VDD, 37 PA14, 38 PA15, 39 PB3, 40 PB4, 41 PB5, 42 PB6, 43 PB7, 44 BOOT0, 45 PB8, 46 PB9, 47 VSS, 48 VDD
1 alternate drawing of the same symbol

## STM32F103RBT6
designator U?
Микроконтроллер; ValueBOM: STM32F103RBT6; ValueSCH: STM32F103RBT6; MarkPCB: STM32F103RBT6; HelpURL: C:\Datasheets\.pdf
footprint LQFP64 (QFP, 0.50mm Pitch, Square; 64 Pin, 10.00mm L X 10.00mm W X 1.00mm H body (w/thermal tab 3.42 X 3.42mm), IPC Medium Density)
pins: 1 VBAT, 2 PC13, 3 PC14, 4 PC15, 5 PD0, 6 PD1, 7 NRST, 8 PC0, 9 PC1, 10 PC2, 11 PC3, 12 VSSA, 13 VDDA, 14 PA0, 15 PA1, 16 PA2, 17 PA3, 18 VSS, 19 VDD, 20 PA4, 21 PA5, 22 PA6, 23 PA7, 24 PC4, 25 PC5, 26 PB0, 27 PB1, 28 PB2, 29 PB10, 30 PB11, 31 VSS, 32 VDD, 33 PB12, 34 PB13, 35 PB14, 36 PB15, 37 PC6, 38 PC7, 39 PC8, 40 PC9, 41 PA8, 42 PA9, 43 PA10, 44 PA11, 45 PA12, 46 PA13, 47 VSS, 48 VDD, 49 PA14, 50 PA15, 51 PC10, 52 PC11, 53 PC12, 54 PD2, 55 PB3, 56 PB4, 57 PB5, 58 PB6, 59 PB7, 60 BOOT0, 61 PB8, 62 PB9, 63 VSS, 64 VDD
1 alternate drawing of the same symbol

## STM32F373CCT6
designator U?, comment STM32f373CCT6
Микроконтроллер; ValueBOM: STM32f373CCT6; ValueSCH: STM32f373CCT6; MarkPCB: STM32f373CCT6; HelpURL: C:\Datasheets\.pdf
footprint LQFP48 (QFP, 0.50mm Pitch, Square, 12 pin X 12 Pin, 7.00mm X 7.00mm X 1.20mm Body, IPC Medium Density)
pins: 1 VBAT, 2 PC13, 3 PC14, 4 PC15, 5 PF0, 6 PF1, 7 NRST, 8 VSSA/VREF-, 9 VDDA, 10 PA0, 11 PA1, 12 PA2, 13 PA3, 14 PA4, 15 PA5, 16 PA6, 17 VDD, 18 PB0, 19 PB1, 20 PB2, 21 PE8, 22 PE9, 23 VSSSD/VREFSD-, 24 VDDSD, 25 VREFSD+, 26 PB14, 27 PB15, 28 PD8, 29 PA8, 30 PA9, 31 PA10, 32 PA11, 33 PA12, 34 PA13, 35 PF6, 36 PF7, 37 PA14, 38 PA15, 39 PB3, 40 PB4, 41 PB5, 42 PB6, 43 PB7, 44 BOOT0, 45 PB8, 46 PB9, 47 VSS, 48 VDD
1 alternate drawing of the same symbol
text: STM32

## STM32H750VB
designator U?
Микроконтроллер
footprint LQFP100 (QFP, 0.50mm Pitch, Square; 100 Pin,14.00mm L X 14.00mm W X 1.20mm H Body, IPC Medium Density)
pins: 1 PE2, 2 PE3, 3 PE4, 4 PE5, 5 PE6, 6 VBAT, 7 PC13, 8 PC14, 9 PC15, 10 VSS, 11 VDD, 12 PH0, 13 PH1, 14 NRST, 15 PC0, 16 PC1, 17 PC2, 18 PC3, 19 VSSA, 20 VREF+, 21 VDDA, 22 PA0, 23 PA1, 24 PA2, 25 PA3, 26 VSS, 27 VDD, 28 PA4, 29 PA5, 30 PA6, 31 PA7, 32 PC4, 33 PC5, 34 PB0, 35 PB1, 36 PB2, 37 PE7, 38 PE8, 39 PE9, 40 PE10, 41 PE11, 42 PE12, 43 PE13, 44 PE14, 45 PE15, 46 PB10, 47 PB11, 48 VCAP, 49 VSS, 50 VDD, 51 PB12, 52 PB13, 53 PB14, 54 PB15, 55 PD8, 56 PD9, 57 PD10, 58 PD11, 59 PD12, 60 PD13, 61 PD14, 62 PD15, 63 PC6, 64 PC7, 65 PC8, 66 PC9, 67 PA8, 68 PA9, 69 PA10, 70 PA11, 71 PA12, 72 PA13, 73 VCAP, 74 VSS, 75 VDD, 76 PA14, 77 PA15, 78 PC10, 79 PC11, 80 PC12, 81 PD0, 82 PD1, 83 PD2, 84 PD3, 85 PD4, 86 PD5, 87 PD6, 88 PD7, 89 PB3, 90 PB4, 91 PB5, 92 PB6, 93 PB7, 94 BOOT0, 95 PB8, 96 PB9, 97 PE0, 98 PE1, 99 VSS, 100 VDD

## STR1550
designator Q?
Транзистор NPN; ValueBOM: STR1550; ValueSCH: STR1550; HelpURL: C:\Datasheets\.pdf
footprint SOT23 (SOT-23; 3 Leads; Body 3.0 x 2.6 mm Pitch 0.95mm)
pins: 1 B, 2 E, 3 C
1 alternate drawing of the same symbol

## SWD1-4
designator SW?
Переключатель; ValueBOM: SWD1-4; ValueSCH: SWD1-4; MarkPCB: SWD1-4; HelpURL: C:\Datasheets\.pdf
footprint SWD1-4 (Body 12.1x7.5mm, 4 Ways SPST DIP Switch, Thru Hole, TYCO AD Series)
pins: 1, 2, 3, 4, 5, 6, 7, 8
1 alternate drawing of the same symbol

## TL071
designator TL071
Операционный усилитель; ValueBOM: TL071; ValueSCH: TL071; MarkPCB: TL071
footprint SO8-150
pins: 1 RG (power), 2 IN- (in), 3 IN+ (in), 4 V- (power), 5 RG (power), 6 OUT (oc), 7 V+ (power)
1 alternate drawing of the same symbol

## TL074
designator U?
Операционный усилитель x4; ValueBOM: TL074; ValueSCH: TL074; MarkPCB: TL074; HelpURL: Z:\_PROJECTS\__MY_AD_LIB\Datasheets\TL074.pdf
footprint SO14-150
part A pins: 1 OUT (oc), 2 IN- (in), 3 IN+ (in)
part B pins: 5 IN+ (in), 6 IN- (in), 7 OUT (oc)
part C pins: 12 IN+ (in), 13 IN- (in), 14 OUT (oc)
part D pins: 8 OUT (oc), 9 IN- (in), 10 IN+ (in)
part E pins: 4 V+ (power), 11 V- (power)
1 alternate drawing of the same symbol

## TL084
designator U?
Операционный усилитель x4; ValueBOM: TL084; ValueSCH: TL084; MarkPCB: TL084; HelpURL: Z:\_PROJECTS\__MY_AD_LIB\Datasheets\TL084.pdf
footprint SO14-150
part A pins: 1 OUT, 2 IN-, 3 IN+
part B pins: 5 IN+, 6 IN-, 7 OUT
part C pins: 12 IN+, 13 IN-, 14 OUT
part D pins: 8 OUT (oc), 9 IN-, 10 IN+ (hiz)
part E pins: 4 V+ (power), 11 V- (power)
1 alternate drawing of the same symbol

## TL331
designator U?
Компаратор; MarkPCB: DBV; ValueBOM: TL331; ValueSCH: TL331; HelpURL: C:\Datasheets\TL331.pdf
footprint SOT235 (SOT23, 5-Leads, Body 2.9x1.3mm, Pitch 0.95mm, Lead Span 2.5mm)
pins: 1 IN- (in), 2 V- (power), 3 IN+ (in), 4 OUT (oc), 5 V+ (power)
1 alternate drawing of the same symbol

## TL431
designator D?
ИОН; ValueBOM: TL431; ValueSCH: TL431; HelpURL: C:\Datasheets\TL431.pdf
footprint SOT323 (SOT-323/SC-70; 3 Leads; Body 2.2 x 2.2 mm, inc. leads (LxW max))
pins: 1, 2, 3
1 alternate drawing of the same symbol

## TL431_SOIC8
designator D?, comment TL431
ИОН; ValueBOM: TL431; ValueSCH: TL431; HelpURL: C:\Datasheets\TL431.pdf
footprint SO8-150
pins: 1, 2, 3, 6, 7, 8
1 alternate drawing of the same symbol

## TLP280-4
designator U?
Оптопара транзисторная 4х канальная; ValueBOM: TLP280-4; ValueSCH: TLP280-4; MarkPCB: TLP280-4; HelpURL: C:\Datasheets\TLP280.pdf
footprint Model Name (Model Description)
footprint _SO16-200
part A pins: 1, 2, 15, 16
part B pins: 3, 4, 13, 14
part C pins: 5, 6, 11, 12
part D pins: 7, 8, 9, 10
1 alternate drawing of the same symbol

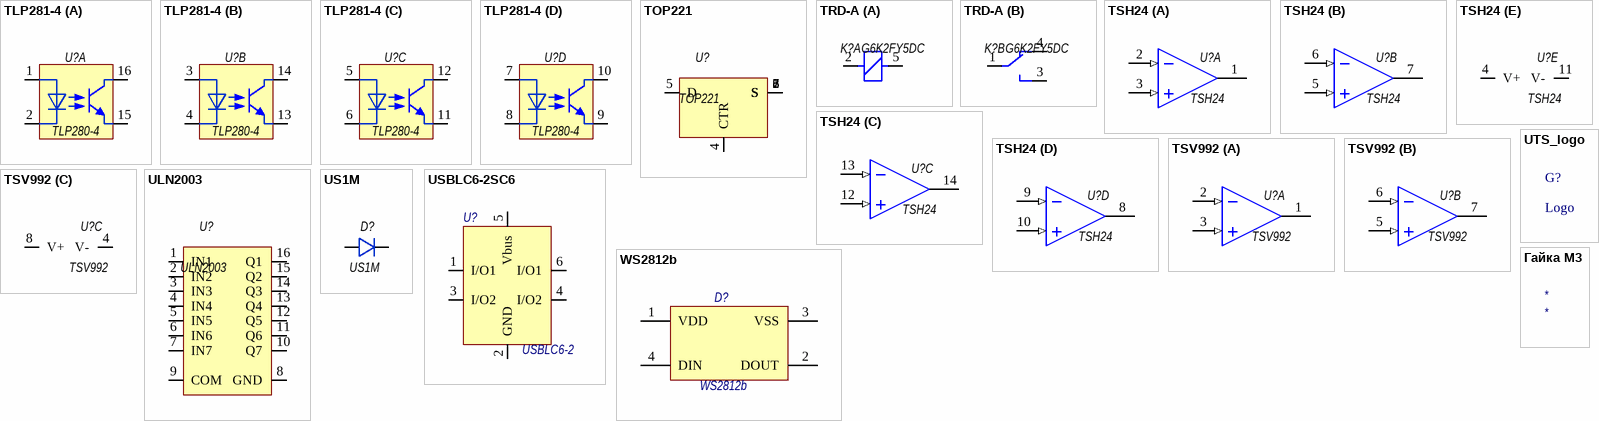
[diagram p3: symbols TLP281-4 to Гайка M3]

## TLP281-4
designator U?, comment TLP280-4
Оптопара транзисторная 4х канальная; ValueBOM: TLP280-4; ValueSCH: TLP280-4; MarkPCB: TLP280-4; HelpURL: Z:\_PROJECTS\__MY_AD_LIB\Datasheets\TLP281.pdf
footprint Model Name (Model Description)
footprint _SO16-200
part A pins: 1, 2, 15, 16
part B pins: 3, 4, 13, 14
part C pins: 5, 6, 11, 12
part D pins: 7, 8, 9, 10
1 alternate drawing of the same symbol

## TOP221
designator U?
Стабилизатор; ValueBOM: TOP221; ValueSCH: TOP221
footprint DIP8-300 (DIP 8 Leads, Row Spacing 7.62 mm; Pitch 2.54 mm)
pins: 1 S, 2 S, 3 S, 4 CTR, 5 D, 6 S, 7 S, 8 S
1 alternate drawing of the same symbol

## TRD-A
designator K?, comment G6K2FY5DC
Реле; MarkPCB: G6K; ValueBOM: G6K2FY5DC; HelpURL: C:\Datasheets\G6K.pdf; ValueSCH: G6K2FY5DC
footprint TRD_A (5 Leads Relay, Row Spacing 12 mm; Body 22mm x 16mm, JS Serie)
part A pins: 2, 5
part B pins: 1, 3, 4

## TSH24
designator U?
Операционный усилитель x4; ValueBOM: TSH24; ValueSCH: TSH24; MarkPCB: TSH24; HelpURL: C:\Datasheets\TSH24.pdf
footprint SO14-150
part A pins: 1 OUT (oc), 2 IN- (in), 3 IN+ (in)
part B pins: 5 IN+ (in), 6 IN- (in), 7 OUT (oc)
part C pins: 12 IN+ (in), 13 IN- (in), 14 OUT (oc)
part D pins: 8 OUT (oc), 9 IN- (in), 10 IN+ (in)
part E pins: 4 V+ (power), 11 V- (power)
1 alternate drawing of the same symbol

## TSV992
designator U?
Операционный усилитель; ValueBOM: TSV992; ValueSCH: TSV992; MarkPCB: TSV992
footprint SO8-150
part A pins: 1 OUT (oc), 2 IN- (in), 3 IN+ (in)
part B pins: 5 IN+ (in), 6 IN- (in), 7 OUT (oc)
part C pins: 4 V- (power), 8 V+ (power)
1 alternate drawing of the same symbol

## ULN2003
designator U?
Буффер, 7 каналов, выход с открытым коллектором; ValueBOM: ULN2003; ValueSCH: ULN2003; MarkPCB: ULN2003; HelpURL: C:\Datasheets\ULN2003.pdf
footprint SO14-150
footprint TSSOP14 (SOP, 14-Leads, Body 5.1x4.5mm (max), Pitch 0.65mm, IPC Medium Density)
pins: 1 IN1, 2 IN2, 3 IN3, 4 IN4, 5 IN5, 6 IN6, 7 IN7, 8 GND, 9 COM, 10 Q7, 11 Q6, 12 Q5, 13 Q4, 14 Q3, 15 Q2, 16 Q1
1 alternate drawing of the same symbol

## US1M
designator D?
Диод; ValueBOM: US1M; ValueSCH: US1M; MarkPCB: US1M; HelpURL: C:\Datasheets\US1M.pdf
footprint DO-214AC (SMA) (DO-214-AC/SMA; 2 C-Bend Leads; Body 5 x 2.7 mm, inc. leads (LxW))
pins: 1 A, 2 K
1 alternate drawing of the same symbol

## USBLC6-2SC6
designator U?, comment USBLC6-2
ESD защита; ValueBOM: USBLC6-2
footprint SOT236 (SOT23, 6-Leads, Body 2.9x1.3mm, Pitch 0.95mm, Lead Span 2.5mm)
pins: 1 I/O1, 2 GND, 3 I/O2, 4 I/O2, 5 Vbus, 6 I/O1

## UTS_logo
designator G?, comment Logo
ValueBOM: No component
footprint UTS_LOGO_0 (Логотип УТС)

## WS2812b
designator D?
pins: 1 VDD, 2 DOUT, 3 VSS, 4 DIN

## Гайка M3
designator *